# EAGLE library part AE-FT231X (library !usb-usart)
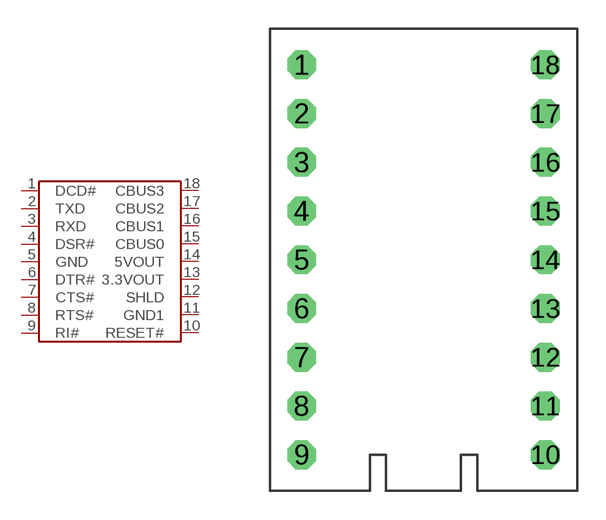
[diagram p1: symbol with the pads of AE-FT231X; footprint AE-FT231X]

Designator prefix -

## AE-FT231X  [AE-FT231X]
1  DCD#
2  TXD
3  RXD
4  DSR#
5  GND
6  DTR#
7  CTS#
8  RTS#
9  RI#
10  RESET#
11  GND1
12  SHLD
13  3.3VOUT
14  5VOUT
15  CBUS0
16  CBUS1
17  CBUS2
18  CBUS3

## Footprint AE-FT231X (pad centres in mm)
drill 1 octagon: 1 0,20.32; 2 0,17.78; 3 0,15.24; 4 0,12.7; 5 0,10.16; 6 0,7.62; 7 0,5.08; 8 0,2.54; 9 0,0; 10 12.7,0; 11 12.7,2.54; 12 12.7,5.08; 13 12.7,7.62; 14 12.7,10.16; 15 12.7,12.7; 16 12.7,15.24; 17 12.7,17.78; 18 12.7,20.32